# Altium footprint library MP901.PcbLib: 1 footprints
Each footprint in its own frame and in the unit in brackets; x right, y up, seen from the top. Pads: shape width x height; smd on the part's side, far side on the other; paste and mask are expansions set on the pad; w line width, h text height; cw(c..) or ccw(c..) is an arc to the next point about the centre after c.
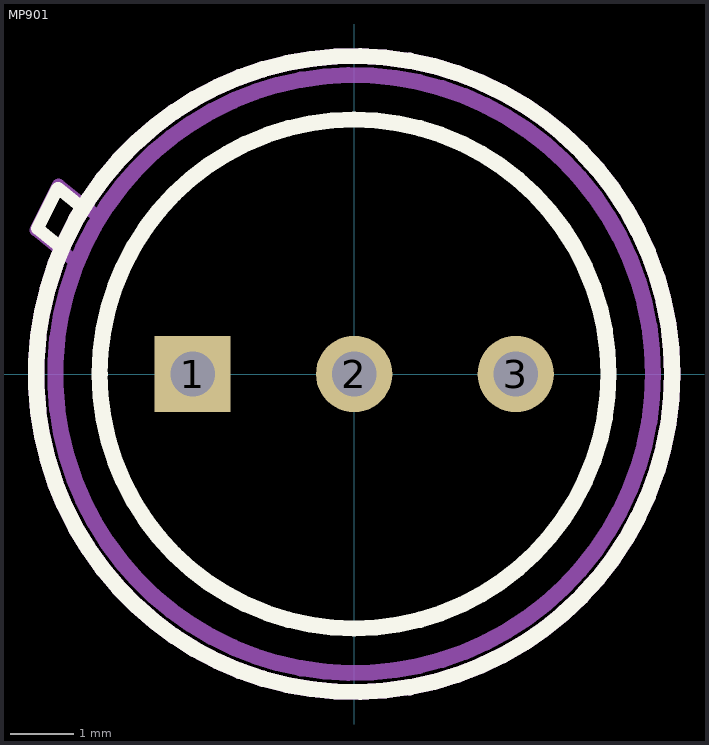
[diagram p0: the footprint, top view; thin cyan lines are the x and y axes]

## MP901 [mm] "D 9.4 mm  d 8mm"
height 7.5
pads (3):
  rect 1.2x1.2 hole 0.7: 1(-2.54,0)
  round 1.2 hole 0.7: 2(0,0) 3(2.54,0)
Top Overlay:
  circle w0.254: c0,0 r4
  circle w0.254: c0,0 r5
  lines w0.2: -4.597,1.981 -4.978,2.286 -4.657,2.921 -4.276,2.616
Mechanical 13:
  circle w0.254: c0,0 r4.7
  lines w0.2: -4.369,1.753 -5.004,2.261 -4.648,2.972 -4.013,2.464
Mechanical 15:
  circle w0.254: c0,0 r5
3D body: height 13.5, standoff -1.76, extent -4.672,-4.673 4.689,4.698